# Altium schematic symbol library SnapEDAsch.SchLib: 1 symbol
Pins are listed as number, name and electrical type; pins without a type are passive.

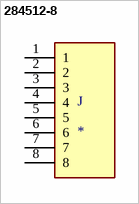
[diagram p0: symbol 284512-8]

## 284512-8
designator J
8 POS TERMI-BLOK HDR 900 POLAR; MF: TE Connectivity; MP: 284512-8; Centerline_Pitch: 3.5 mm[.138 in]; Number_of_Positions: 8; SnapEDA_Link: https://www.snapeda.com/parts/284512-8/TE%20Connectivity%20AMP%20Connectors/view-part/467023/?ref=snap; Price: None; EU_RoHS_Compliance: Compliant; Availability: Unavailable; TE_purchase_URL: https://www.te.com/usa-en/product-284512-8.html?te_bu=Cor&te_type=disp&te_campaign=seda_glo_cor-seda-global-disp-prtnr-fy19-seda-model-bom-cta_sma-317_1&elqCampaignId=32493; Value: *; Package: None
footprint TE_284512-8
pins: 1, 2, 3, 4, 5, 6, 7, 8